# Altium footprint library new_component.PcbLib: 2 footprints
Each footprint in its own frame and in the unit in brackets; x right, y up, seen from the top. Pads: shape width x height; smd on the part's side, far side on the other; paste and mask are expansions set on the pad; w line width, h text height; cw(c..) or ccw(c..) is an arc to the next point about the centre after c.
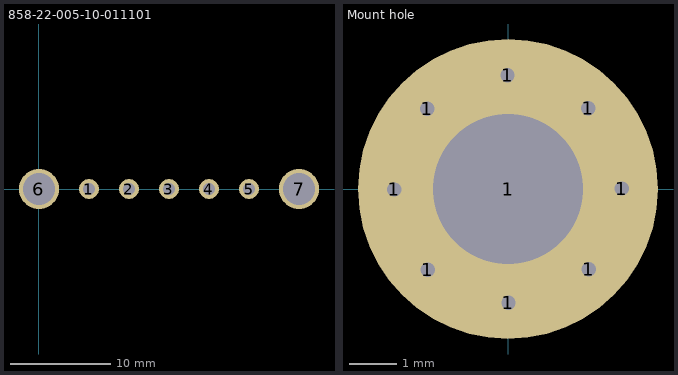
[diagram p0: the footprints below, top view; thin cyan lines are the x and y axes]

## 858-22-005-10-011101 [mil]
pads (7):
  round 79 hole 47 paste-99999: 1(196.85,0) 2(354.33,0) 3(511.81,0) 4(669.29,0) 5(826.77,0)
  round 157.48 hole 125.2 paste-99999: 6(0,0) 7(1023.62,0)
3D body "858-22-005-10-011101--3DModel-STEP-56544.STEP": height 378, standoff -125, extent -157.49,-157.5 1181.11,157.5

## Mount hole [mm]
pads (9):
  round 0.6 hole 0.3: 1(-2.408,-0.007) 1(-1.708,1.697) 1(-1.697,-1.708) 1(-0.007,2.408) 1(0.007,-2.408) 1(1.697,1.708) 1(1.708,-1.697) 1(2.408,0.007)
  round 6.35 hole 3.18 paste-2539.97: 1(0,0)